# Altium schematic symbol library ArdUno_AADsm5-42b.SchLib: 27 symbols
Pins are listed as number, name and electrical type; pins without a type are passive.

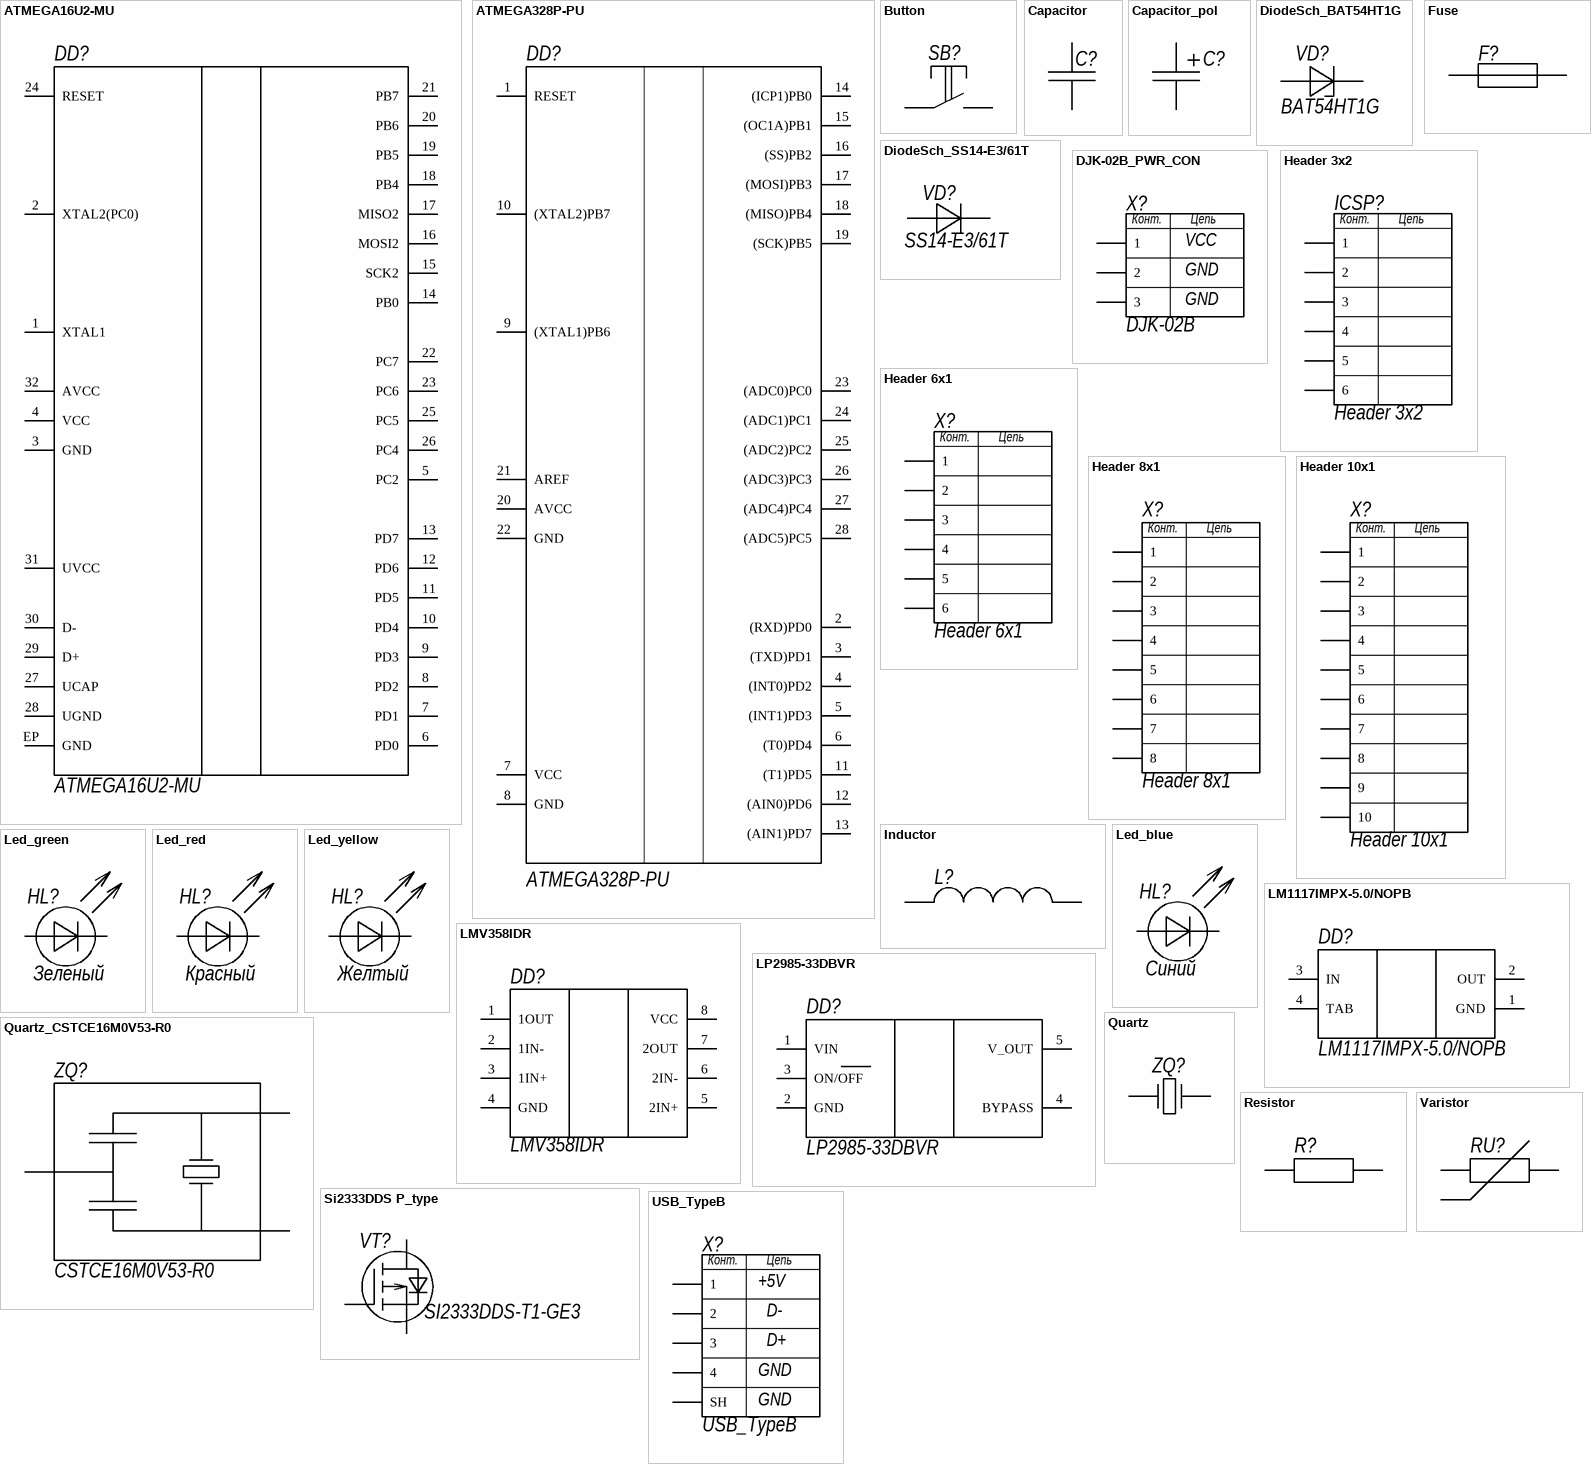
[diagram p0: symbols ATMEGA16U2-MU to Varistor]

## ATMEGA16U2-MU
designator DD?
ValueManufacturer: ATMEGA; ValueType: Микроконтроллер; ValueManufacturerPartNumber: ATMEGA16U2-MU; Case: QFN32_0.5_5x5mm; ValueDescription: Микроконтроллер
footprint QFN32_0.5_5x5mm
pins: 1 XTAL1, 2 XTAL2(PC0), 3 GND, 4 VCC, 5 PC2, 6 PD0, 7 PD1, 8 PD2, 9 PD3, 10 PD4, 11 PD5, 12 PD6, 13 PD7, 14 PB0, 15 SCK2, 16 MOSI2, 17 MISO2, 18 PB4, 19 PB5, 20 PB6, 21 PB7, 22 PC7, 23 PC6, 24 RESET, 25 PC5, 26 PC4, 27 UCAP, 28 UGND, 29 D+, 30 D-, 31 UVCC, 32 AVCC, EP GND

## ATMEGA328P-PU
designator DD?
ValueManufacturer: ATMEGA; ValueType: Микроконтроллер; ValueManufacturerPartNumber: ATMEGA328P-PU; ValueDescription: Микроконтроллер; Case: DIP28
footprint DIP28_2.54
pins: 1 RESET, 2 (RXD)PD0, 3 (TXD)PD1, 4 (INT0)PD2, 5 (INT1)PD3, 6 (T0)PD4, 7 VCC, 8 GND, 9 (XTAL1)PB6, 10 (XTAL2)PB7, 11 (T1)PD5, 12 (AIN0)PD6, 13 (AIN1)PD7, 14 (ICP1)PB0, 15 (OC1A)PB1, 16 (SS)PB2, 17 (MOSI)PB3, 18 (MISO)PB4, 19 (SCK)PB5, 20 AVCC, 21 AREF, 22 GND, 23 (ADC0)PC0, 24 (ADC1)PC1, 25 (ADC2)PC2, 26 (ADC3)PC3, 27 (ADC4)PC4, 28 (ADC5)PC5

## Button
designator SB?, comment 2-1437565-7  (value not drawn)
ValueManufacturer: Te Connectivity; ValueType: Кнопка тактовая; ValueManufacturerPartNumber: 2-1437565-7
footprint TACT_Switch
pins: 1, 2

## Capacitor
designator C?
ValueType: Конденсатор
footprint 0603_CAP
pins: 1, 2

## Capacitor_pol
designator C?
ValueType: Конденсатор
footprint 0607_ELECTR_CAP
pins: 1, 2

## DiodeSch_BAT54HT1G
designator VD?, comment BAT54HT1G
ValueManufacturer: On Semiconductor; ValueDescription: Диод Шоттки; ValueManufacturerPartNumber: BAT54HT1G; ValueType: Диод Шоттки
footprint SOD-323 (DiodeSch_BAT54HT1G)
pins: A 1, K 2

## DiodeSch_SS14-E3/61T
designator VD?, comment SS14-E3/61T
ValueManufacturer: Vishay; ValueDescription: Диод Шоттки; ValueManufacturerPartNumber: SS14-E3/61T; ValueType: Диод Шоттки
footprint DO214AC(SMA) (DiodeSch_SS14-E3/61T)
pins: A 1, K 2

## DJK-02B_PWR_CON
designator X?, comment DJK-02B
ValueManufacturer: KLS; ValueType: Разъем питания; ValueDescription: DJK-02B; ValueManufacturerPartNumber: DJK-02B
footprint DJK-02B
pins: 1, 2, 3
text: Конт.; Цепь; VCC; GND

## Fuse
designator F?
ValueType: Предохранитель
footprint MF-MSMF200
pins: 1, 2

## Header 3x2
designator ICSP?
ValueDescription: PLD-6; ValueType: Разъем штыревой 2,54 мм; Case: HDR2X3
footprint HDR2X3
pins: 1, 2, 3, 4, 5, 6
text: Конт.; Цепь

## Header 6x1
designator X?
ValueType: Разъем; Case: PBS-6
footprint PBS-6
pins: 1, 2, 3, 4, 5, 6
text: Конт.; Цепь

## Header 8x1
designator X?
ValueType: Разъем; Case: PBS-8
footprint PBS-8
pins: 1, 2, 3, 4, 5, 6, 7, 8
text: Конт.; Цепь

## Header 10x1
designator X?
ValueType: Разъем; Case: PBS-10
footprint PBS-10
pins: 1, 2, 3, 4, 5, 6, 7, 8, 9, 10
text: Конт.; Цепь

## Inductor
designator L?
ValueType: Индуктивность
footprint 0603_IND
pins: 1, 2

## Led_blue
designator HL?, comment Синий
ValueManufacturer: Foryard; ValueManufacturerPartNumber: fyls-0603urc; Temp: -40C...+85C; ValueDescription: Светодиод; Case: 0603; Value: Синий; ValueType: Светодиод
footprint 0603_LED_BLUE
pins: A 1, K 2

## Led_green
designator HL?, comment Зеленый
ValueManufacturer: Foryard; ValueManufacturerPartNumber: fyls-0603urc; Temp: -40C...+85C; ValueDescription: Светодиод; Case: 0603; Value: Зеленый; ValueType: Светодиод
footprint 0603_LED_GREEN
pins: A 1, K 2

## Led_red
designator HL?, comment Красный
ValueManufacturer: Foryard; ValueManufacturerPartNumber: fyls-0603urc; Temp: -40C...+85C; ValueDescription: Светодиод; Case: 0603; Value: Красный; ValueType: Светодиод
footprint 0603_LED_RED
pins: A 1, K 2

## Led_yellow
designator HL?, comment Желтый
ValueManufacturer: Foryard; ValueManufacturerPartNumber: fyls-0603urc; Temp: -40C...+85C; ValueDescription: Светодиод; Case: 0603; Value: Желтый; ValueType: Светодиод
footprint 0603_LED_YELLOW
pins: A 1, K 2

## LM1117IMPX-5.0/NOPB
designator DD?
ValueManufacturer: Texas Instruments; ValueType: Линейный стабилизатор напряжения; Case: SOT-223; ValueManufacturerPartNumber: LM1117IMPX-5.0
footprint SOT223-4
pins: 1 GND, 2 OUT, 3 IN, 4 TAB

## LMV358IDR
designator DD?
ValueManufacturer: Texas Instruments; ValueType: Операционный усилитель; Case: SOIC-8; ValueManufacturerPartNumber: LMV358IDR
footprint SOIC-8
pins: 1 1OUT, 2 1IN-, 3 1IN+, 4 GND, 5 2IN+, 6 2IN-, 7 2OUT, 8 VCC
1 alternate drawing of the same symbol

## LP2985-33DBVR
designator DD?
ValueManufacturer: Texas Instruments; ValueType: Линейный стабилизатор напряжения; Case: SOT23-5; ValueManufacturerPartNumber: LP2985-33DBVR
footprint SOT23-5
pins: 1 VIN, 2 GND, 3 ON/OFF, 4 BYPASS, 5 V_OUT

## Quartz
designator ZQ?
ValueType: Кварцевый резонатор
footprint HC-49S
pins: 1, 2

## Quartz_CSTCE16M0V53-R0
designator ZQ?, comment CSTCE16M0V53-R0
ValueManufacturer: Murata; Temp: -40C...+85C; ValueType: Керамический резонатор; Tolerance: 0,5%; Value: 16 МГц; Case: HC-49S; ValueManufacturerPartNumber: CSTCE16M0V53-R0
footprint CSTCE16M0V53-R0 (Quartz_CSTCE16M0V53-R0)
pins: 1, 2, 3

## Resistor
designator R?
ValueType: Резистор
footprint 0603_RES
pins: 1, 2

## Si2333DDS P_type
designator VT?, comment SI2333DDS-T1-GE3
ValueManufacturer: Vishay; ValueType: MOSFET; Case: SOT-23; ValueManufacturerPartNumber: SI2333DDS-T1-GE3
footprint SOT-23
pins: 1, 2, 3

## USB_TypeB
designator X?
ValueManufacturer: Te Connectivity; ValueManufacturerPartNumber: 292304-1; ValueType: USB разъем тип B
footprint USB_typeB
pins: 0 SH, 1, 2, 3, 4
text: Конт.; Цепь; +5V; D-; D+; GND

## Varistor
designator RU?
ValueType: Варистор
footprint 0603_VAR
pins: 1, 2